# Altium footprint library PcbLib1.PcbLib: 6 footprints
Each footprint in its own frame and in the unit in brackets; x right, y up, seen from the top. Pads: shape width x height; smd on the part's side, far side on the other; paste and mask are expansions set on the pad; w line width, h text height; cw(c..) or ccw(c..) is an arc to the next point about the centre after c.
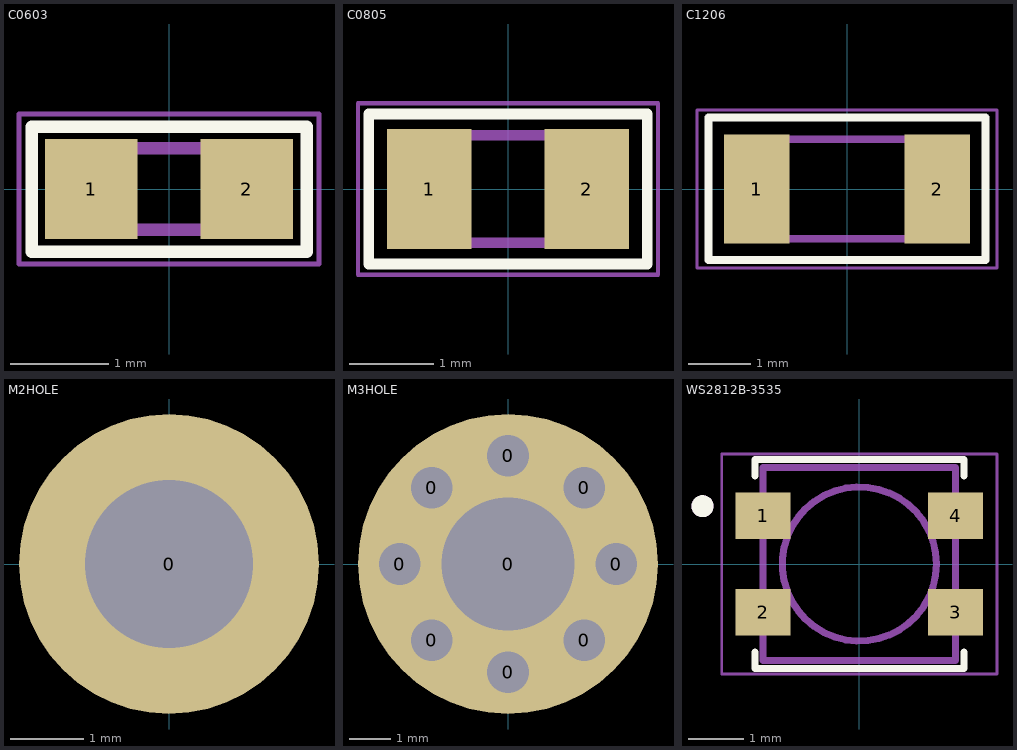
[diagram p0: the footprints below, top view; thin cyan lines are the x and y axes]

## C0603 [mm]
pads (2):
  rect 0.94x1.02 smd: 1(-0.79,0) 2(0.79,0)
Top Overlay:
  lines w0.127: -1.397,-0.635 -1.397,0.635 1.397,0.635 1.397,-0.635 -1.397,-0.635
Mechanical 4:
  lines w0.127: -0.813,-0.412 -0.813,0.412 0.813,0.412 0.813,-0.412 -0.813,-0.412
Mechanical 16:
  lines w0.05: -1.524,-0.762 -1.524,0.762 1.524,0.762 1.524,-0.762 -1.524,-0.762
3D body "CAP0603.STEP": height 0.82, standoff 0, extent -0.8,-0.412 0.8,0.412

## C0805 [mm]
pads (2):
  rect 1x1.42 smd: 1(-0.935,0) 2(0.935,0)
Top Overlay:
  lines w0.127: 1.651,0.889 1.651,-0.89 -1.651,-0.89 -1.651,-0.889 -1.651,0.889 1.651,0.89
Mechanical 4:
  lines w0.127: -1.016,-0.637 1.016,-0.637 1.016,0.637 -1.016,0.637 -1.016,-0.637
Mechanical 16:
  lines w0.05: -1.778,-1.016 1.778,-1.016 1.778,1.016 -1.778,1.016 -1.778,-1.016
3D body "CAP0805.STEP": height 1.27, standoff 0, extent -1,-0.637 1,0.637

## C1206 [mm]
pads (2):
  rect 1.05x1.75 smd: 1(-1.45,0) 2(1.45,0)
Top Overlay:
  lines w0.127: -2.225,-1.143 2.225,-1.143 2.225,1.15 -2.225,1.15 -2.225,-1.143
Mechanical 4:
  lines w0.127: -1.6,-0.8 1.6,-0.8 1.6,0.8 -1.6,0.8 -1.6,-0.8
Mechanical 16:
  lines w0.05: -2.413,-1.27 2.413,-1.27 2.413,1.27 -2.413,1.27 -2.413,-1.27
3D body "CAP1206-1.2mm.STEP": height 1.2, standoff 0, extent -1.6,-0.8 1.6,0.8

## M2HOLE [mm]
pads (1):
  round 4.1 hole 2.3 paste+0 mask+0: 0(0,0)

## M3HOLE [mm]
pads (9):
  round 2 hole 1 paste+0 mask+0: 0(-2.6,0) 0(-1.83,-1.83) 0(-1.83,1.83) 0(0,-2.6) 0(0,2.6) 0(1.83,-1.83) 0(1.83,1.83) 0(2.6,0)
  round 7.2 hole 3.2 paste+0 mask+0: 0(0,0)

## WS2812B-3535 [mm]
pads (4):
  rect 1x0.85 smd: 1(-1.75,0.875) 2(-1.75,-0.875) 3(1.75,-0.875) 4(1.75,0.875)
Top Overlay:
  circle w0.2: c-2.85,1.05 r0.1
  lines w0.127: -1.9,-1.6 -1.9,-1.9 1.9,-1.9 1.9,-1.6 ; -1.9,1.6 -1.9,1.9 1.9,1.9 1.9,1.6
Mechanical 4:
  circle w0.127: c0,0 r1.4
  circle w0.2: c-2.85,1.05 r0.1
  circle w0.127: c0,0 r1.4
  circle w0.2: c-2.85,1.05 r0.1
  lines w0.127: -1.75,-1.75 1.75,-1.75 ; -1.75,-1.75 -1.75,1.75 ; -1.75,-1.75 1.75,-1.75 ; -1.75,-1.75 -1.75,1.75 ; -1.75,1.75 1.75,1.75 ; -1.75,1.75 1.75,1.75 ; 1.75,-1.75 1.75,1.75 ; 1.75,-1.75 1.75,1.75
Mechanical 16:
  lines w0.05: -2.5,-2 2.5,-2 2.5,2 -2.5,2 -2.5,-2
3D body "SMD WS2812B Mini.step": height 1.96, standoff 0.01, extent -1.84,-1.74 1.84,1.74